# Altium footprint library Wurth_Elektronik_Passive_rev16a.PCBLIB: 810 footprints (part 2 of 51)
Each footprint in its own frame and in the unit in brackets; x right, y up, seen from the top. Pads: shape width x height; smd on the part's side, far side on the other; paste and mask are expansions set on the pad; w line width, h text height; cw(c..) or ccw(c..) is an arc to the next point about the centre after c.
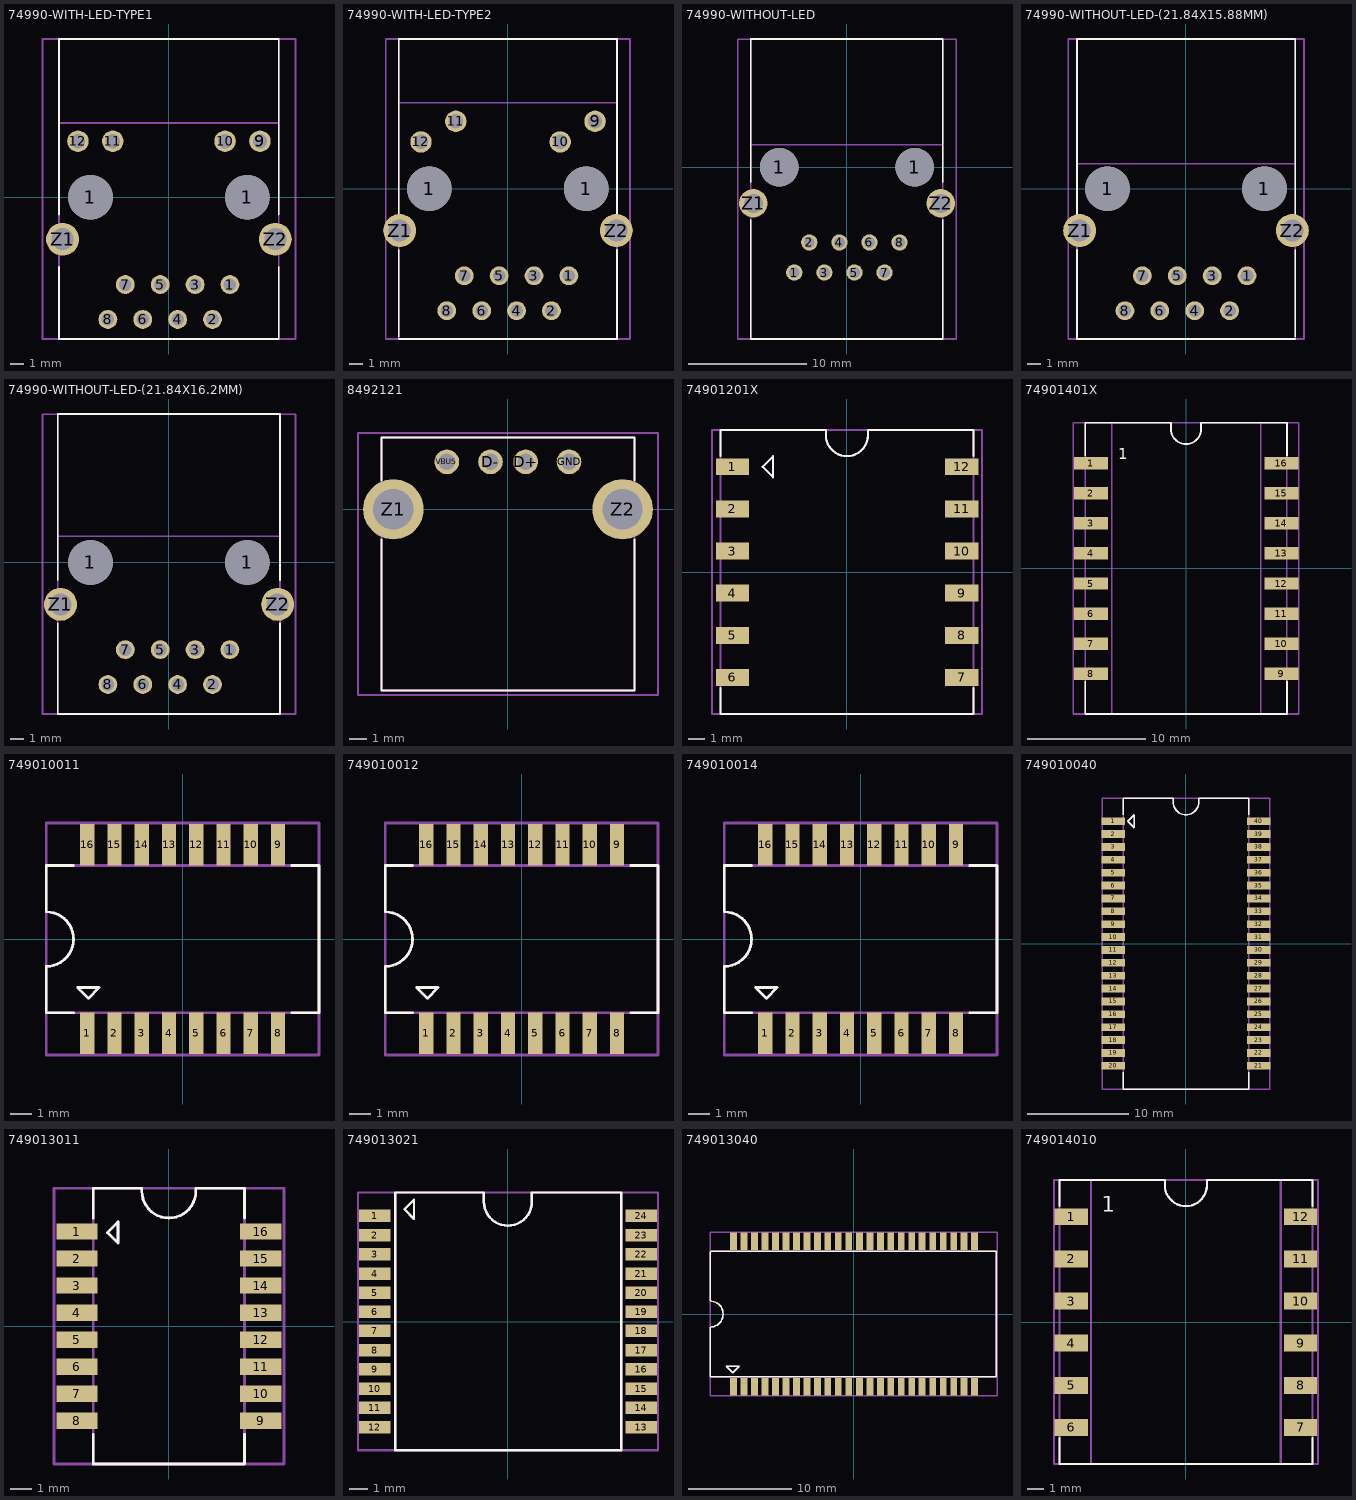
[diagram p1: the footprints below, top view; thin cyan lines are the x and y axes]

## 74990-WITH-LED-TYPE1 [mil]
pads (16):
  round 128 hole 128: 1(-225,0) 1(225,0)
  round 54 hole 36: 1(175,-250) 2(125,-350) 3(75,-250) 4(25,-350) 5(-25,-250) 6(-75,-350) 7(-125,-250) 8(-175,-350)
  round 61.5 hole 41: 9(261,161) 10(161,161) 11(-160.83,161) 12(-260.83,161)
  round 94.5 hole 63: Z1(-304.92,-120.08) Z2(305,-120.08)
Top Overlay:
  lines w5: -314.96,-200 -314.96,-406.1 315,-406.1 315,-200 ; -314.96,-50 -314.96,454 315,454 315,-50
Mechanical 2:
  text ">NAME" at -18.44,487 h77.5
Mechanical 4:
  text ">VALUE" at -18.44,-485.57 h77.5
Mechanical 10:
  lines w5: -314.96,213 -314.96,454 315,454 315,213 -314.96,213
Mechanical 16:
  lines w5: -314.96,-406.1 315,-406.1 315,454 -314.96,454 -314.96,-406.1
  text "1" at 250,-225 h49.6
  text "8" at -225,-350 h49.6
Mechanical 27:
  lines w5: -362.5,-406.1 363,-406.1 363,454 -362.5,454 -362.5,-406.1

## 74990-WITH-LED-TYPE2 [mil]
pads (16):
  round 128 hole 128: 1(-225,0) 1(225,0)
  round 54 hole 36: 1(175,-250) 2(125,-350) 3(75,-250) 4(25,-350) 5(-25,-250) 6(-75,-350) 7(-125,-250) 8(-175,-350)
  round 61.5 hole 41: 9(250,193) 10(150,134) 11(-149.02,193) 12(-249.02,134)
  round 94.5 hole 63: Z1(-310.04,-120.08) Z2(311,-120.08)
Top Overlay:
  lines w5: -312.6,-431.1 313,-431.1 313,-175 ; -312.6,-425 -312.6,-175 ; -312.6,-75 -312.6,429 313,429 313,-75
Mechanical 2:
  text ">NAME" at 11,489 h77.5
Mechanical 4:
  text ">VALUE" at -39.83,-510.57 h77.5
Mechanical 10:
  lines w5: -312.6,246 313,246 313,429 -312.6,429 -312.6,246
Mechanical 16:
  lines w5: -312.6,-431.1 313,-431.1 313,429 -312.6,429 -312.6,-431.1
  text "1" at 250,-225 h49.6
  text "8" at -225,-350 h49.6
Mechanical 27:
  lines w5: -350,-431.1 350,-431.1 350,429 -350,429 -350,-431.1

## 74990-WITHOUT-LED [mil]
pads (12):
  round 128 hole 128: 1(-225,0) 1(225,0)
  round 54 hole 36: 1(-175,-350) 2(-125,-250) 3(-75,-350) 4(-25,-250) 5(25,-350) 6(75,-250) 7(125,-350) 8(175,-250)
  round 94.5 hole 63: Z1(-311.02,-120.08) Z2(312,-120.08)
Top Overlay:
  lines w5: -318.9,-175 -318.9,-570.87 319,-570.87 319,-175 ; -318.9,-50 -318.9,426 319,426 319,-50
Mechanical 2:
  text ">NAME" at -18.44,487 h77.5
Mechanical 4:
  text ">VALUE" at -18.44,-610.57 h77.5
Mechanical 10:
  lines w5: -318.9,75 319,75 319,425 -318.9,425 -318.9,75
Mechanical 16:
  lines w5: -318.9,-570.87 -318.9,426 319,426 319,-570.87 -318.9,-570.87
  text "1" at -225,-350 h49.6
  text "8" at 250,-225 h49.6
Mechanical 27:
  lines w5: -362.5,-570.87 363,-570.87 363,425 -362.5,425 -362.5,-570.87

## 74990-WITHOUT-LED-(21.84X15.88MM) [mil]
pads (12):
  round 128 hole 128: 1(-225,0) 1(225,0)
  round 54 hole 36: 1(175,-250) 2(125,-350) 3(75,-250) 4(25,-350) 5(-25,-250) 6(-75,-350) 7(-125,-250) 8(-175,-350)
  round 94.5 hole 63: Z1(-304.92,-120.08) Z2(305,-120.08)
Top Overlay:
  lines w5: -312.6,-175 -312.6,-431.1 313,-431.1 ; -312.6,-75 -312.6,429 313,429 313,-75 ; 313,-425 313,-175
Mechanical 2:
  text ">NAME" at -139.83,439 h77.5
Mechanical 4:
  text ">VALUE" at -139.83,-510.57 h49.6
Mechanical 10:
  lines w5: -312.6,71 313,71 313,429 -312.6,429 -312.6,71
Mechanical 16:
  lines w5: -312.6,-431.1 313,-431.1 313,429 -312.6,429 -312.6,-431.1
  text "1" at 250,-225 h49.6
  text "8" at -225,-350 h49.6
Mechanical 27:
  lines w5: -337.5,-431.1 338,-431.1 338,429 -337.5,429 -337.5,-431.1

## 74990-WITHOUT-LED-(21.84X16.2MM) [mil]
pads (12):
  round 128 hole 128: 1(-225,0) 1(225,0)
  round 54 hole 36: 1(175,-250) 2(125,-350) 3(75,-250) 4(25,-350) 5(-25,-250) 6(-75,-350) 7(-125,-250) 8(-175,-350)
  round 94.5 hole 63: Z1(-311.02,-120.08) Z2(312,-120.08)
Top Overlay:
  lines w5: -318.9,-175 -318.9,-434.65 319,-434.65 319,-175 ; -318.9,-50 -318.9,426 319,426 319,-50 ; -175,-434.65 -150,-434.65 ; -75,-434.65 75,-434.65 ; 150,-434.65 175,-434.65
Mechanical 2:
  text ">NAME" at 32,462 h77.5
Mechanical 4:
  text ">VALUE" at 7,-510.57 h77.5
Mechanical 10:
  lines w5: -318.9,75 319,75 319,425 -318.9,425 -318.9,75
Mechanical 16:
  lines w5: -318.9,-434.65 -318.9,426 319,426 319,-434.65 -318.9,-434.65
  text "1" at 250,-200 h49.6
  text "8" at -225,-350 h49.6
Mechanical 27:
  lines w5: -362.5,-434.65 363,-434.65 363,425 -362.5,425 -362.5,-434.65

## 8492121 [mil]
pads (6):
  round 55.5 hole 37: D+(40,107) D-(-39.37,107) GND(138,107) VBUS(-137.8,107)
  round 136.5 hole 91: Z1(-258.66,0) Z2(259,0)
Top Overlay:
  lines w5: -285.43,-68.9 -285.43,-409.45 286,-409.45 286,-68.9 ; -285.43,65 -285.43,162 286,162 286,65
Mechanical 2:
  text ">Name" at -98.43,193 h77.5
Mechanical 4:
  text ">Value" at -106.3,-492.13 h77.5
Mechanical 16:
  lines w5: -285.43,-409.45 286,-409.45 286,162 -285.43,162 -285.43,-409.45
Mechanical 27:
  lines w5: -338.58,-419.29 339,-419.29 339,172 -338.58,172 -338.58,-419.29

## 74901201X [mil]
pads (12):
  rect 79x40 smd: 1(-271.65,250) 2(-271.65,150) 3(-271.65,50) 4(-271.65,-50) 5(-271.65,-150) 6(-271.65,-250) 7(272,-250) 8(272,-150) 9(272,-50) 10(272,50) 11(272,150) 12(272,250)
Top Overlay:
  lines w5: -300,-275 -300,-336.61 300,-336.61 300,-275 ; -300,275 -300,337 -50,337 -50,325 ccw(c0,325) 0,275 ccw(c0,325) 50,325 50,337 300,337 300,275 ; -200,250 -175,275 -175,225 -200,250
Mechanical 2:
  text ">NAME" at -157.48,-393.7 h77.5
Mechanical 4:
  text ">VALUE" at -157.48,355 h77.5
Mechanical 10:
  lines w5: -300,-336.61 300,-336.61 300,337 -300,337 -300,-336.61
Mechanical 16:
  lines w5: -300,-336.61 300,-336.61 300,337 50,337 50,325 cw(c0,325) 0,275 cw(c0,325) -50,325 -50,337 -300,337 -300,-336.61 ; -200,250 -175,275 -175,225 -200,250
Mechanical 27:
  lines w5: -319.69,-336.61 -319.69,337 320,337 320,-336.61 -319.69,-336.61

## 74901401X [mil]
pads (16):
  rect 113x41 smd: 1(-316.14,350) 2(-316.14,250) 3(-316.14,150) 4(-316.14,50) 5(-316.14,-50) 6(-316.14,-150) 7(-316.14,-250) 8(-316.14,-350) 9(317,-350) 10(317,-250) 11(317,-150) 12(317,-50) 13(317,50) 14(317,150) 15(317,250) 16(317,350)
Top Overlay:
  lines w6: -334.65,-375 -334.65,-483.27 335,-483.27 335,-375 ; -334.65,375 -334.65,484 -50,484 -50,463 ccw(c0,463) 0,413 ccw(c0,463) 50,463 50,484 335,484 335,375
  text "1" at -225,350 h62
Mechanical 2:
  text ">NAME" at -107.48,-568.7 h77.5
Mechanical 4:
  text ">VALUE" at -132.48,505 h77.5
Mechanical 10:
  lines w5: -247.15,-483.27 -247.15,484 248,484 248,-483.27
  lines w6: -247.15,-483.27 248,-483.27
Mechanical 16:
  lines w5: -334.65,-483.27 335,-483.27 335,484 50,484 50,463 cw(c0,463) 0,413 cw(c0,463) -50,463 -50,484 -334.65,484 -334.65,-483.27
  text "1" at -225,350 h62
Mechanical 27:
  lines w5: -375,-483.27 -375,484 375,484 375,-483.27 -375,-483.27

## 749010011 [mil]
pads (16):
  rect 26x76 smd: 1(-175,-172.64) 2(-125,-172.64) 3(-75,-172.64) 4(-25,-172.64) 5(25,-172.64) 6(75,-172.64) 7(125,-172.64) 8(175,-172.64) 9(175,173) 10(125,173) 11(75,173) 12(25,173) 13(-25,173) 14(-75,173) 15(-125,173) 16(-175,173)
Top Overlay:
  lines w5: -200,-134.84 -250,-134.84 -250,-50 ccw(c-250,0) -200,0 ccw(c-250,0) -250,50 -250,135 -200,135 ; 200,-134.84 250,-134.84 250,135 200,135 ; -192.52,-88.78 -172.83,-108.46 -153.15,-88.78 -192.52,-88.78
Mechanical 2:
  text ">NAME" at -275.59,-118.11 h77.5
Mechanical 4:
  text ">VALUE" at 335,-137.8 h77.5
Mechanical 10:
  lines w5: -250,-134.84 250,-134.84 250,135 -250,135 -250,-134.84
Mechanical 16:
  lines w5: -250,-134.84 -250,-50 ccw(c-250,0) -200,0 ccw(c-250,0) -250,50 -250,135 250,135 250,-134.84 -250,-134.84 ; -192.52,-88.78 -172.83,-108.46 -153.15,-88.78 -192.52,-88.78
Mechanical 27:
  lines w5: -250,-212.5 250,-212.5 250,213 -250,213 -250,-212.5

## 749010012 [mil]
pads (16):
  rect 26x76 smd: 1(-175,-172.64) 2(-125,-172.64) 3(-75,-172.64) 4(-25,-172.64) 5(25,-172.64) 6(75,-172.64) 7(125,-172.64) 8(175,-172.64) 9(175,173) 10(125,173) 11(75,173) 12(25,173) 13(-25,173) 14(-75,173) 15(-125,173) 16(-175,173)
Top Overlay:
  lines w5: -200,-134.84 -250,-134.84 -250,-50 ccw(c-250,0) -200,0 ccw(c-250,0) -250,50 -250,135 -200,135 ; 200,-134.84 250,-134.84 250,135 200,135 ; -192.52,-88.78 -172.83,-108.46 -153.15,-88.78 -192.52,-88.78
Mechanical 2:
  text ">NAME" at -275.59,-118.11 h77.5
Mechanical 4:
  text ">VALUE" at 335,-137.8 h77.5
Mechanical 10:
  lines w5: -250,-134.84 250,-134.84 250,135 -250,135 -250,-134.84
Mechanical 16:
  lines w5: -250,-134.84 -250,-50 ccw(c-250,0) -200,0 ccw(c-250,0) -250,50 -250,135 250,135 250,-134.84 -250,-134.84 ; -192.52,-88.78 -172.83,-108.46 -153.15,-88.78 -192.52,-88.78
Mechanical 27:
  lines w5: -250,-212.5 250,-212.5 250,213 -250,213 -250,-212.5

## 749010014 [mil]
pads (16):
  rect 26x76 smd: 1(-175,-172.64) 2(-125,-172.64) 3(-75,-172.64) 4(-25,-172.64) 5(25,-172.64) 6(75,-172.64) 7(125,-172.64) 8(175,-172.64) 9(175,173) 10(125,173) 11(75,173) 12(25,173) 13(-25,173) 14(-75,173) 15(-125,173) 16(-175,173)
Top Overlay:
  lines w5: -200,-134.84 -250,-134.84 -250,-50 ccw(c-250,0) -200,0 ccw(c-250,0) -250,50 -250,135 -200,135 ; 200,-134.84 250,-134.84 250,135 200,135 ; -192.52,-88.78 -172.83,-108.46 -153.15,-88.78 -192.52,-88.78
Mechanical 2:
  text ">NAME" at -263.09,-118.11 h77.5
Mechanical 4:
  text ">VALUE" at 310,-137.8 h77.5
Mechanical 10:
  lines w5: -250,-134.84 250,-134.84 250,135 -250,135 -250,-134.84
Mechanical 16:
  lines w5: -250,-134.84 -250,-50 ccw(c-250,0) -200,0 ccw(c-250,0) -250,50 -250,135 250,135 250,-134.84 -250,-134.84 ; -192.52,-88.78 -172.83,-108.46 -153.15,-88.78 -192.52,-88.78
Mechanical 27:
  lines w5: -250,-212.5 250,-212.5 250,213 -250,213 -250,-212.5

## 749010040 [mil]
pads (40):
  rect 91x30 smd: 1(-281.5,475) 2(-281.5,425) 3(-281.5,375) 4(-281.5,325) 5(-281.5,275) 6(-281.5,225) 7(-281.5,175) 8(-281.5,125) 9(-281.5,75) 10(-281.5,25) 11(-281.5,-25) 12(-281.5,-75) 13(-281.5,-125) 14(-281.5,-175) 15(-281.5,-225) 16(-281.5,-275) 17(-281.5,-325) 18(-281.5,-375) 19(-281.5,-425) 20(-281.5,-475) 21(282,-475) 22(282,-425) 23(282,-375) 24(282,-325) 25(282,-275) 26(282,-225) 27(282,-175) 28(282,-125) 29(282,-75) 30(282,-25) 31(282,25) 32(282,75) 33(282,125) 34(282,175) 35(282,225) 36(282,275) 37(282,325) 38(282,375) 39(282,425) 40(282,475)
Top Overlay:
  lines w5: -242.52,-500 -242.52,-564.96 243,-564.96 243,-500 ; -242.52,500 -242.52,565 -50,565 -50,550 ccw(c0,550) 0,500 ccw(c0,550) 50,550 50,565 243,565 243,500 ; -225,475 -200,500 -200,450 -225,475
Mechanical 2:
  text ">NAME" at -137.8,-649.61 h77.5
Mechanical 4:
  text ">VALUE" at -118.11,591 h77.5
Mechanical 10:
  lines w5: -242.52,-564.96 243,-564.96 243,565 -242.52,565 -242.52,-564.96
Mechanical 16:
  lines w5: -242.52,-564.96 -242.52,565 -50,565 -50,550 ccw(c0,550) 0,500 ccw(c0,550) 50,550 50,565 243,565 243,-564.96 -242.52,-564.96 ; -225,475 -200,500 -200,450 -225,475
Mechanical 27:
  lines w5: -325,-564.96 -325,565 325,565 325,-564.96 -325,-564.96

## 749013011 [mil]
pads (16):
  rect 76x30 smd: 1(-169.98,175) 2(-169.98,125) 3(-169.98,75) 4(-169.98,25) 5(-169.98,-25) 6(-169.98,-75) 7(-169.98,-125) 8(-169.98,-175) 9(170,-175) 10(170,-125) 11(170,-75) 12(170,-25) 13(170,25) 14(170,75) 15(170,125) 16(170,175)
Top Overlay:
  lines w5: -139.96,-200 -139.96,-254.92 140,-254.92 140,-200 ; -139.96,200 -139.96,255 -50,255 -50,250 ccw(c0,250) 0,200 ccw(c0,250) 50,250 50,255 140,255 140,200 ; -113.78,173 -94.09,193 -94.09,154 -113.78,173
Mechanical 2:
  text ">NAME" at -137.8,276 h77.5
Mechanical 4:
  text ">VALUE" at -137.8,-314.96 h77.5
Mechanical 10:
  lines w5: -139.96,-254.92 140,-254.92 140,255 -139.96,255 -139.96,-254.92
Mechanical 16:
  lines w5: -139.96,-254.92 -139.96,255 -50,255 -50,250 ccw(c0,250) 0,200 ccw(c0,250) 50,250 50,255 140,255 140,-254.92 -139.96,-254.92 ; -113.78,173 -94.09,193 -94.09,154 -113.78,173
Mechanical 27:
  lines w5: -212.5,-254.92 -212.5,255 213,255 213,-254.92 -212.5,-254.92

## 749013021 [mil]
pads (24):
  rect 65x26 smd: 1(-277.56,221) 2(-277.56,180) 3(-277.56,140) 4(-277.56,100) 5(-277.56,60) 6(-277.56,20) 7(-277.56,-19.29) 8(-277.56,-59.45) 9(-277.56,-99.61) 10(-277.56,-139.76) 11(-277.56,-179.92) 12(-277.56,-220.08) 13(278,-220.08) 14(278,-179.92) 15(278,-139.76) 16(278,-99.61) 17(278,-59.45) 18(278,-19.29) 19(278,20) 20(278,60) 21(278,100) 22(278,140) 23(278,180) 24(278,221)
Top Overlay:
  lines w5: -235.04,-268.5 -235.04,269 -50,269 -50,250 ccw(c0,250) 0,200 ccw(c0,250) 50,250 50,269 236,269 236,-268.5 -235.04,-268.5 ; -215.35,234 -195.67,254 -195.67,214 -215.35,234
Mechanical 2:
  text ">NAME" at 20,315 h77.5
Mechanical 4:
  text ">VALUE" at 0,-314.96 h77.5
Mechanical 10:
  lines w5: -235.04,-268.5 236,-268.5 236,269 -235.04,269 -235.04,-268.5
Mechanical 16:
  lines w5: -235.04,-268.5 -235.04,269 -50,269 -50,250 ccw(c0,250) 0,200 ccw(c0,250) 50,250 50,269 236,269 236,-268.5 -235.04,-268.5 ; -215.35,234 -195.67,254 -195.67,214 -215.35,234
Mechanical 27:
  lines w5: -312.5,-268.5 313,-268.5 313,269 -312.5,269 -312.5,-268.5

## 749013040 [mil]
pads (48):
  rect 26x68 smd: 1(-459.84,-278.74) 2(-419.69,-278.74) 3(-379.53,-278.74) 4(-339.37,-278.74) 5(-299.21,-278.74) 6(-259.06,-278.74) 7(-218.9,-278.74) 8(-178.74,-278.74) 9(-138.58,-278.74) 10(-98.43,-278.74) 11(-58.27,-278.74) 12(-18.11,-278.74) 13(23,-278.74) 14(63,-278.74) 15(103,-278.74) 16(143,-278.74) 17(183,-278.74) 18(223,-278.74) 19(263,-278.74) 20(304,-278.74) 21(344,-278.74) 22(384,-278.74) 23(424,-278.74) 24(464,-278.74) 25(464,279) 26(424,279) 27(384,279) 28(344,279) 29(304,279) 30(263,279) 31(223,279) 32(183,279) 33(143,279) 34(103,279) 35(63,279) 36(23,279) 37(-18.11,279) 38(-58.27,279) 39(-98.43,279) 40(-138.58,279) 41(-178.74,279) 42(-218.9,279) 43(-259.06,279) 44(-299.21,279) 45(-339.37,279) 46(-379.53,279) 47(-419.69,279) 48(-459.84,279)
Top Overlay:
  lines w5: -550,238 -550,50 cw(c-550,0) -500,0 cw(c-550,0) -550,-50 -550,-239.96 548,-239.96 548,240 -547.44,240 ; -487.5,-200 -462.5,-225 -437.5,-200 -487.5,-200
Mechanical 2:
  text ">NAME" at -600,-150 h77.5
Mechanical 4:
  text ">VALUE" at 611,-107.48 h77.5
Mechanical 10:
  lines w5: -550,-239.96 550,-239.96 550,240 -550,240 -550,-239.96
Mechanical 16:
  lines w5: -550,238 -550,50 cw(c-550,0) -500,0 cw(c-550,0) -550,-50 -550,-239.96 548,-239.96 548,240 -550,240 ; -487.5,-200 -437.5,-200 -462.5,-225 -487.5,-200
Mechanical 27:
  lines w5: -550,-312.5 550,-312.5 550,313 -550,313 -550,-312.5

## 749014010 [mil]
pads (12):
  rect 79x40 smd: 1(-271.65,250) 2(-271.65,150) 3(-271.65,50) 4(-271.65,-50) 5(-271.65,-150) 6(-271.65,-250) 7(272,-250) 8(272,-150) 9(272,-50) 10(272,50) 11(272,150) 12(272,250)
Top Overlay:
  lines w5: -300,-275 -300,-336.61 300,-336.61 300,-275 ; -300,275 -300,337 -50,337 -50,325 ccw(c0,325) 0,275 ccw(c0,325) 50,325 50,337 300,337 300,275
  text "1" at -200,250 h62
Mechanical 2:
  text ">NAME" at -157.48,-393.7 h77.5
Mechanical 4:
  text ">VALUE" at -157.48,355 h77.5
Mechanical 10:
  lines w5: -225,-336.61 225,-336.61 225,337 -225,337 -225,-336.61
Mechanical 16:
  lines w5: -300,-336.61 300,-336.61 300,337 50,337 50,325 cw(c0,325) 0,275 cw(c0,325) -50,325 -50,337 -300,337 -300,-336.61
  text "1" at -200,250 h62
Mechanical 27:
  lines w5: -312.5,-336.61 -312.5,337 313,337 313,-336.61 -312.5,-336.61